# Altium schematic symbol library 74LV1T34GV-Q100H.SchLib: 1 symbol
Pins are listed as number, name and electrical type; pins without a type are passive.

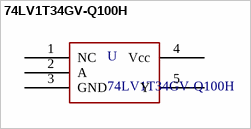
[diagram p0: symbol 74LV1T34GV-Q100H]

## 74LV1T34GV-Q100H
designator U
Level Shifter
footprint Model Name (Footprint not found)
footprint SOT95P275X110-5N
pins: 1 NC, 2 A, 3 GND, 4 Vcc, 5 Y